# Altium schematic symbol library flowcharts.schlib: 23 symbols
Pins are listed as number, name and electrical type; pins without a type are passive.

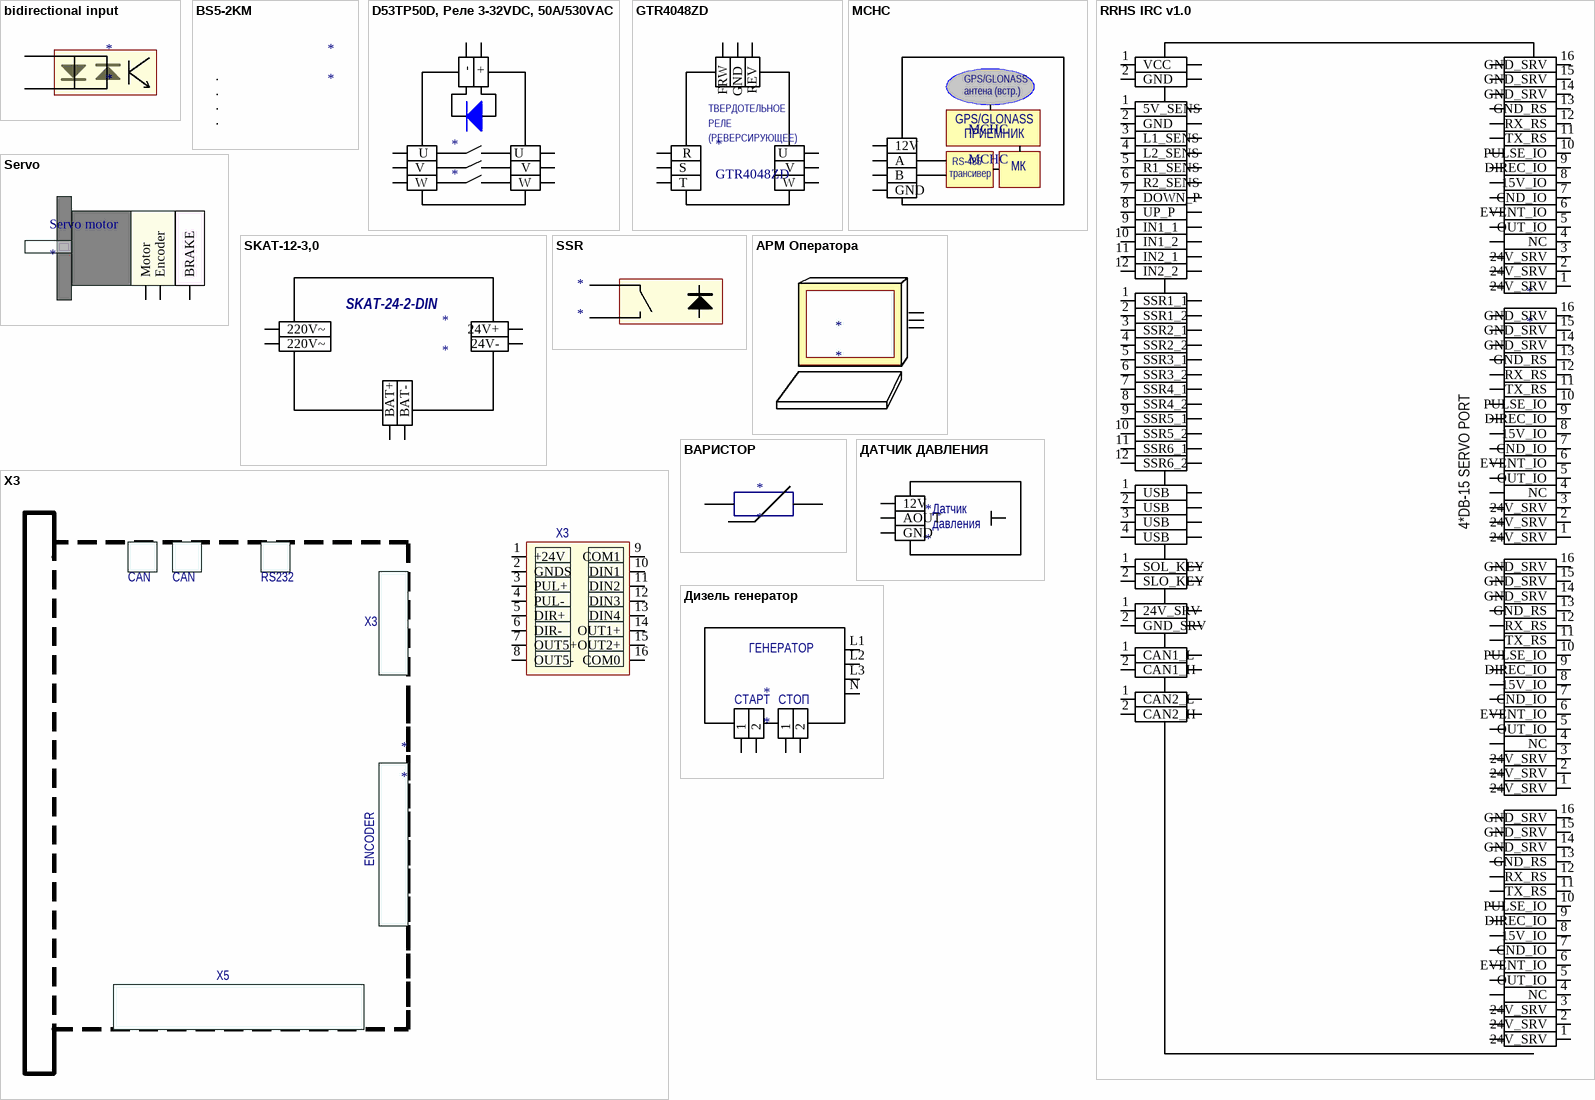
[diagram p0: symbols bidirectional input to Дизель генератор]

## bidirectional input
designator *
pins: 1 "Anode", 2 "Cathode"

## BS5-2KM
designator *
pins: 1, 2, 3, 4

## D53TP50D, Реле 3-32VDC, 50A/530VAC
designator *
pins: 1 A, 2 V, 2 V, 2 K, 4  U, 4 W, 4    U  , 4 W, 4  +, 4  -

## GTR4048ZD
designator *
pins: 2 S, 2 V, 4  R, 4 T, 4    U  , 4 W, 4 REV, 4 GND, 4 FRW
text: ТВЕРДОТЕЛЬНОЕ; РЕЛЕ; (РЕВЕРСИРУЮЩЕЕ)

## MСНС
designator MСНС
pins: 2 A, 2 GND, 4 12V, 4 B
text: GPS/GLONASS; антена (встр.); ПРИЕМНИК; RS-485; МК; трансивер

## RRHS IRC v1.0
designator *
pins: 1 24V_SRV, 1 24V_SRV, 1 24V_SRV, 1 24V_SRV, 1 VCC, 1 5V_SENS, 1 SSR1_1, 1 USB, 1 SOL_KEY, 1 24V_SRV, 1 CAN1_L, 1 CAN2_L, 2 24V_SRV, 2 24V_SRV, 2 24V_SRV, 2 24V_SRV, 2 GND, 2 GND, 2 SSR1_2, 2 USB, 2 SLO_KEY, 2 GND_SRV, 2 CAN1_H, 2 CAN2_H, 3 24V_SRV, 3 24V_SRV, 3 24V_SRV, 3 24V_SRV, 3 L1_SENS, 3 SSR2_1, 3 USB, 4 NC, 4 NC, 4 NC, 4 NC, 4 L2_SENS, 4 SSR2_2, 4 USB, 5 OUT_IO, 5 OUT_IO, 5 OUT_IO, 5 OUT_IO, 5 R1_SENS, 5 SSR3_1, 6 EVENT_IO, 6 EVENT_IO, 6 EVENT_IO, 6 EVENT_IO, 6 R2_SENS, 6 SSR3_2, 7 CND_IO, 7 CND_IO, 7 CND_IO, 7 CND_IO, 7 DOWN_P, 7 SSR4_1, 8 15V_IO, 8 15V_IO, 8 15V_IO, 8 15V_IO, 8 UP_P, 8 SSR4_2, 9 DIREC_IO, 9 DIREC_IO, 9 DIREC_IO, 9 DIREC_IO, 9 IN1_1, 9 SSR5_1, 10 PULSE_IO, 10 PULSE_IO, 10 PULSE_IO, 10 PULSE_IO, 10 IN1_2, 10 SSR5_2, 11 TX_RS, 11 TX_RS, 11 TX_RS, 11 TX_RS, 11 IN2_1, 11 SSR6_1, 12 RX_RS, 12 RX_RS, 12 RX_RS, 12 RX_RS, 12 IN2_2, 12 SSR6_2, 13 GND_RS, 13 GND_RS, 13 GND_RS, 13 GND_RS, 14 GND_SRV, 14 GND_SRV, 14 GND_SRV, 14 GND_SRV, 15 GND_SRV, 15 GND_SRV, 15 GND_SRV, 15 GND_SRV, 16 GND_SRV, 16, 16, 16, 16, 16, 16, 16, 16, 16, 16, 16, 16, 16, 16, 16, 16, 16 GND_SRV, 16, 16, 16, 16, 16, 16, 16, 16, 16, 16, 16, 16, 16, 16, 16, 16, 16 GND_SRV, 16, 16, 16, 16, 16, 16, 16, 16, 16, 16, 16, 16, 16, 16, 16, 16, 16 GND_SRV, 16, 16, 16, 16, 16, 16, 16, 16, 16, 16, 16, 16, 16, 16, 16, 16, 16, 16, 16, 16, 16, 16, 16, 16, 16, 16, 16, 16, 16, 16, 16, 16, 16, 16, 16, 16, 16, 16, 16, 16, 16, 16, 16, 16, 16, 16, 16, 16, 16, 16, 16, 16, 16, 16
text: 4*DB-15 SERVO PORT

## Servo
designator Servo motor
pins: 19 Motor, 20 Encoder, 20 BRAKE

## SKAT-12-3,0
designator *
pins: 1 24V-, 1 220V~, 1 BAT+, 2 24V+, 2 220V~, 2 BAT-
text: SKAT-24-2-DIN

## SSR
designator *
pins: 1 "Anode", 2 "Cathode"

## X3
designator *
pins: 1 +24V, 2 GNDS, 3 PUL+, 4 PUL-, 5 DIR+, 6 DIR-, 7 OUT5+, 8 OUT5-, 9 COM1, 10 DIN1, 11 DIN2, 12 DIN3, 13 DIN4, 14 OUT1+, 15 OUT2+, 16 COM0
text: CAN; RS232; ENCODER; X5

## АРМ Оператора
designator *
pins: W, W, W

## ВАРИСТОР
designator *
pins: 1, 2

## ДАТЧИК ДАВЛЕНИЯ
designator *
pins: 2 AOUT, 2 GND, 4 12V
text: Датчик; давления

## Дизель генератор
designator *
pins: 1, 1, 2, 2, L1 L!, L2 W, L3 W, N
text: ГЕНЕРАТОР; СТАРТ; СТОП

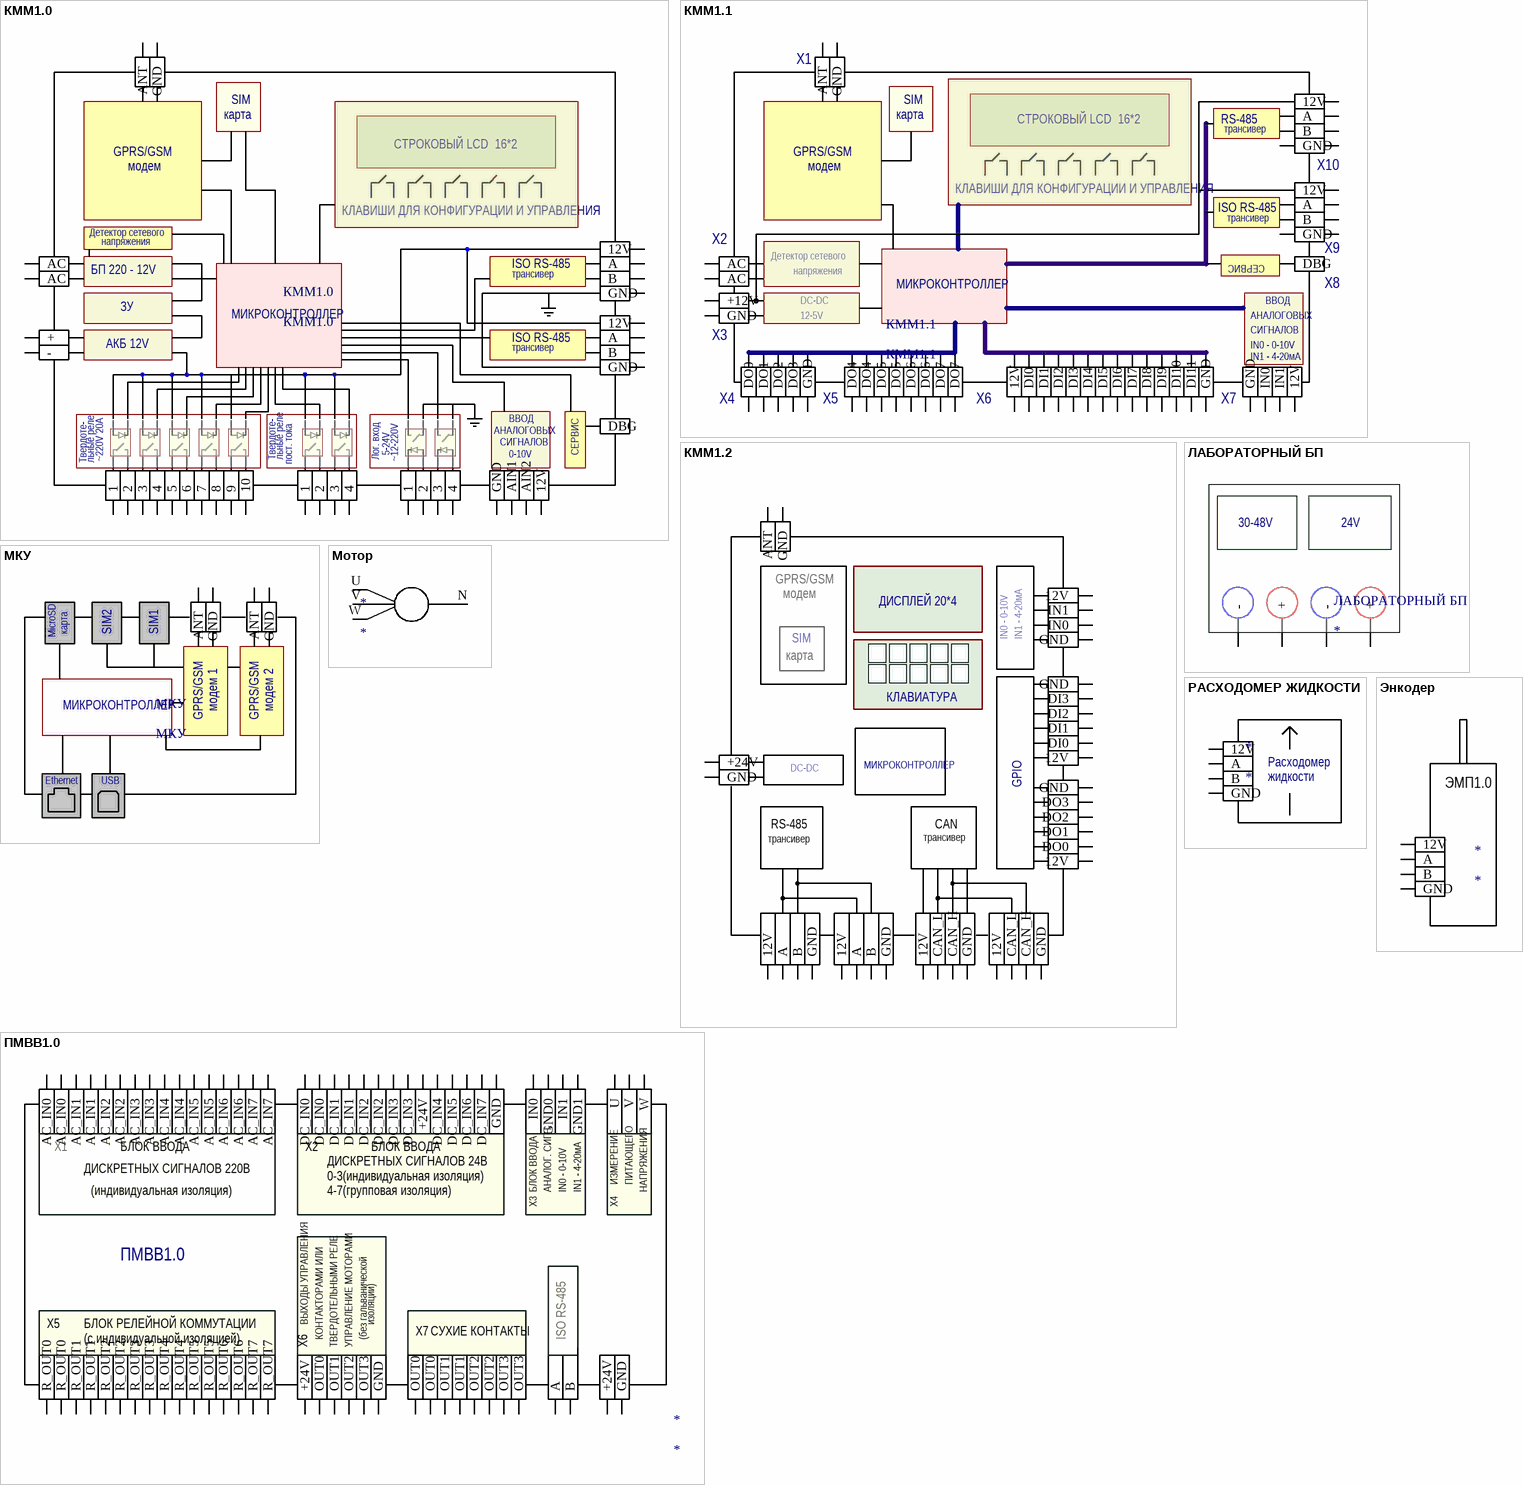
[diagram p1: symbols КММ1.0 to Энкодер]

## КММ1.0
designator КММ1.0
pins: 1 GND, 1 +, 1, 1 5, 1 7, 1 9, 1, 1 3, 1, 1 3, 1 GND, 1 AIN2, 2 ANT, 2 -, 2 AC, 2, 2 6, 2 8, 2 10, 2, 2 4, 2, 2 4, 2 A, 2 GND, 2 A, 2 GND, 2 AIN1, 2 12V, 2 DBG, 3, 3, 4, 4 AC, 4, 4 12V, 4 B, 4 12V, 4 B, 5, 6, 7, 8, 9, 10, 11, 13, 14, 15, 15, 15, 15, 15, 15, 15, 15, 15, 15, 16, 16, 16, 16, 16, 16, 16, 16, 16, 16, 17, 17, 17, 17, 17, 18, 18, 18 B, 18, 18 B, 19, 20, 21, 22, 23, 24, 25, 26, 26, 26, 26, 26, 26, 26, 26, 26, 27, 27, 27, 27, 27, 27, 27, 27, 27, 28, 29, 30, 31, 32, 33, 34, 35, 37, 38
text: SIM; карта; СТРОКОВЫЙ LCD  16*2; GPRS/GSM; модем; КЛАВИШИ ДЛЯ КОНФИГУРАЦИИ И УПРАВЛЕНИЯ; Детектор сетевого; напряжения; ISO RS-485; БП 220 - 12V; трансивер; ЗУ; МИКРОКОНТРОЛЛЕР; АКБ 12V; ВВОД; АНАЛОГОВЫХ; СИГНАЛОВ; ~220V 20A; Твердоте-; льные реле; Лог. вход; 5-24V; ~12-220V; 0-10V; СЕРВИС; пост. тока

## КММ1.1
designator КММ1.1
pins: 1 GND, 1 DO0, 1 DO4, 1 DO5, 1 DO6, 1 DO7, 1 DI0, 1 DI2, 1 DI4, 1 DI6, 1 DI8, 1 DI10, 1 GND, 1 GND, 1 IN1, 2 ANT, 2 AC, 2 A, 2 GND, 2 A, 2 GND, 2 DBG, 2 DO1, 2 DO4, 2 DO5, 2 DO6, 2 DO7, 2 DI1, 2 DI3, 2 DI5, 2 DI7, 2 DI9, 2 DI11, 2 12V, 2 IN0, 2 12V, 3 DO2, 4, 4 AC, 4 +12V, 4 GND, 4 12V, 4 B, 4 12V, 4 B, 4 DO3, 5, 15, 15, 15, 15, 15, 15, 15, 16, 16, 16, 16, 16, 16, 16, 16, 17, 17, 17, 17, 17, 18, 18, 18 B, 18, 18 B, 19, 20, 39 GND, 40, 41, 42, 43, 44, 45, 46, 47, 48, 49, 50, 51, 52, 53
text: X1; SIM; карта; СТРОКОВЫЙ LCD  16*2; RS-485; трансивер; GPRS/GSM; модем; X10; КЛАВИШИ ДЛЯ КОНФИГУРАЦИИ И УПРАВЛЕНИЯ; ISO RS-485; X2; СЕРВИС; X9; Детектор сетевого; напряжения; МИКРОКОНТРОЛЛЕР; X8; DC-DC; ВВОД; 12-5V; АНАЛОГОВЫХ; СИГНАЛОВ; X3; IN0 - 0-10V; IN1 - 4-20мА; X4; X5; X6; X7

## КММ1.2
designator *
pins: 1 DO0, 1 DI0, 1 DI2, 1 GND, 1 GND, 1 GND, 1 IN1, 2 A, 2 GND, 2 CAN_L, 2 GND, 2 A, 2 GND, 2 CAN_L, 2 GND, 2 DO1, 2 12V, 2 DI1, 2 DI3, 2 12V, 2 ANT, 2 IN0, 2 12V, 3 DO2, 4 +24V, 4 GND, 4 12V, 4 B, 4 12V, 4 CAN_H, 4 12V, 4 B, 4 12V, 4 CAN_H, 4 DO3, 15, 15, 15, 15, 15, 16, 16, 16, 16, 16, 16, 17, 17, 18, 18 B, 39 GND, 40, 40, 41, 42, 43, 44, 45
text: GPRS/GSM; модем; ДИСПЛЕЙ 20*4; IN0 - 0-10V; IN1 - 4-20мА; SIM; карта; КЛАВИАТУРА; DC-DC; МИКРОКОНТРОЛЛЕР; GPIO; RS-485; CAN; трансивер

## ЛАБОРАТОРНЫЙ БП
designator ЛАБОРАТОРНЫЙ БП
pins: 21 +, 22 -, 23 -, 24 +
text: 30-48V; 24V

## МКУ
designator МКУ
pins: 1 GND, 1 GND, 2 ANT, 2 ANT, 19, 19, 20, 20
text: MicroSD; карта; SIM2; SIM1; МИКРОКОНТРОЛЛЕР; модем 1; модем 2; GPRS/GSM; Ethernet; USB

## Мотор
designator *
pins: N, U, V, W

## ПМВВ1.0
designator *
pins: 1 GND1, 1 GND0, 1 V, 1 W, 2 AC_IN0, 2 AC_IN1, 2 AC_IN2, 2 AC_IN3, 2 AC_IN4, 2 AC_IN5, 2 AC_IN6, 2 AC_IN7, 2 R_OUT3, 2 R_OUT2, 2 R_OUT1, 2 R_OUT0, 2 R_OUT4, 2 R_OUT4, 2 R_OUT5, 2 R_OUT5, 2 R_OUT6, 2 R_OUT6, 2 R_OUT7, 2 R_OUT7, 2 DC_IN0, 2 DC_IN1, 2 DC_IN2, 2 DC_IN3, 2 +24V, 2 DC_IN5, 2 DC_IN7, 2 OUT2, 2 OUT0, 2 IN1, 2 IN0, 2 +24V, 2 U, 2 OUT3, 2 OUT2, 2 OUT1, 2 OUT0, 2 A, 2 +24V, 4 AC_IN0, 4 AC_IN1, 4 AC_IN2, 4 AC_IN3, 4 AC_IN4, 4 AC_IN5, 4 AC_IN6, 4 AC_IN7, 4 R_OUT3, 4 R_OUT2, 4 R_OUT1, 4 R_OUT0, 4 DC_IN0, 4 DC_IN1, 4 DC_IN2, 4 DC_IN3, 4 DC_IN4, 4 DC_IN6, 4 GND, 4 OUT3, 4 OUT1, 4 GND, 4 OUT3, 4 OUT2, 4 OUT1, 4 OUT0, 4 B, 4 GND
text: X1; БЛОК ВВОДА; X2; ДИСКРЕТНЫХ СИГНАЛОВ 24B; ДИСКРЕТНЫХ СИГНАЛОВ 220B; 0-3(индивидуальная изоляция); ИЗМЕРЕНИЕ; ПИТАЮЩЕГО; АНАЛОГ. СИГН.; IN0 - 0-10V; IN1 - 4-20мА; НАПРЯЖЕНИЯ; (индивидуальная изоляция); 4-7(групповая изоляция); X3; X4; ВЫХОДЫ УПРАВЛЕНИЯ; изоляции); X5; БЛОК РЕЛЕЙНОЙ КОММУТАЦИИ; КОНТАКТОРАМИ ИЛИ; (без гальванической; X7; СУХИЕ КОНТАКТЫ; ISO RS-485; (с индивидуальной изоляцией); X6; ТВЕРДОТЕЛЬНЫМИ РЕЛЕ; УПРАВЛЕНИЕ МОТОРАМИ

## РАСХОДОМЕР ЖИДКОСТИ
designator *
pins: 2 A, 2 GND, 4 12V, 4 B
text: Расходомер; жидкости

## Энкодер
designator *
pins: 2 A, 2 GND, 4 12V, 4 B
text: ЭМП1.0